# Altium integrated library TI Converter CODEC Voice-Band.IntLib: 99 symbols (part 3 of 7)
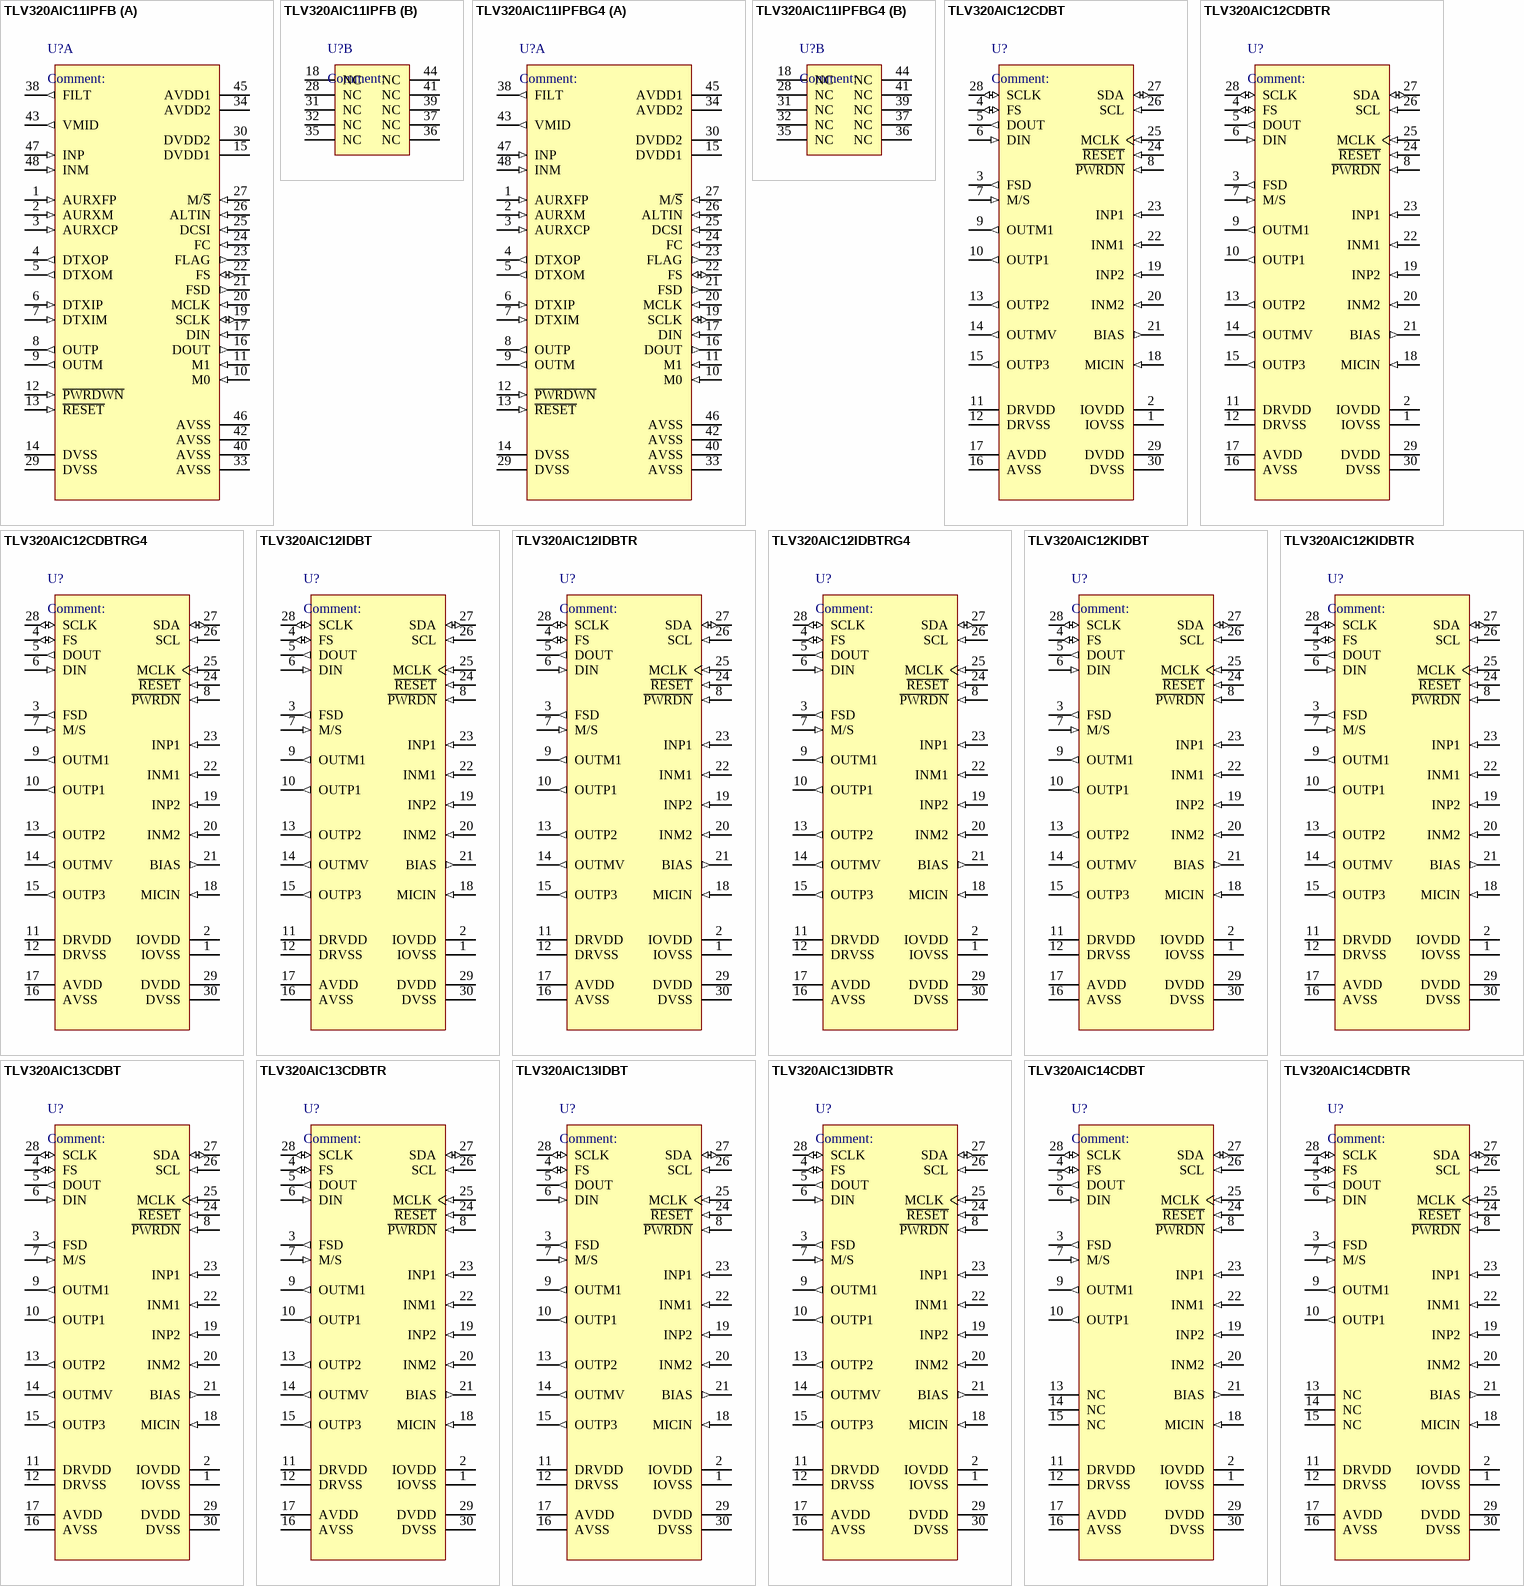
[diagram p11: symbols TLV320AIC11IPFB to TLV320AIC14CDBTR]

## TLV320AIC12KIDBT
designator U?
Low-Power, Highly-Integrated, Programmable 16-Bit, 26-Ksps Mono CODEC, 30-Pin TSSOP, Industrial Grade; Published: 16-Dec-2005; DatasheetVersion: 17-Oct-2005; PackageVersion: Sep-2005; PackageReference: DBT30; Publisher: Altium Limited; PackageDescription: Shrink Small Outline; 30 Leads; Body Width 4.4 mm; Pitch 0.5 mm; Code_JEDEC: MO-153; ComponentLink1Description: Manufacturer Link; ComponentLink1URL: http://www.ti.com/; ComponentLink2Description: Datasheet; ComponentLink2URL: http://focus.ti.com/lit/ds/symlink/tlv320aic12k.pdf
footprint DBT30 (Shrink Small Outline; 30 Leads; Body Width 4.4 mm; Pitch 0.5 mm)
pins: 1 IOVSS (power) "Digital I/O ground", 2 IOVDD (power) "Digital I/O power supply", 3 FSD (out) "Frame sync delayed output. The FSD output synchronizes a slave device to the frame sync of the master device.", 4 FS (io) "Frame sync. When FS goes low, DIN begins receiving data bits and DOUT begins transmitting data bits.", 5 DOUT (out) "Data output. DOUT transmits the ADC output bits and registers data, and is synchronized to SCLK and FS", 6 DIN (in) "Data input. DIN receives the DAC input data and register data from the external DSP and is synchronized to SCLK and FS.", 7 M/S (in) "Master/slave select input.", 8 ~{PWRDN} (in) "Power down.", 9 OUTM1 (out) "Inverting output of the DAC. OUTM1 is functionally identical with and complementary to OUTP1.", 10 OUTP1 (out) "Noninverting output of the DAC.", 11 DRVDD (power) "Analog power supply for the 16 Ohm drivers OUTP2 and OUTP3", 12 DRVSS (power) "Analog ground for the 16 Ohm drivers OUTP2 and OUTP3", 13 OUTP2 (out) "Analog output number 2 from the 16 Ohm driver.", 14 OUTMV (out) "Programmable virtual ground for the output of OUTP2 and OUTP3", 15 OUTP3 (out) "Analog output number 3 from the 16 Ohm driver.", 16 AVSS (power) "Analog ground", 17 AVDD (power) "Analog power supply", 18 MICIN (in) "MIC preamplifier input. It must be connected to AVSS if not used.", 19 INP2 (in) "Noninverting analog input 2. It must be connected to AVSS if not used.", 20 INM2 (in) "Inverting analog input 2. It must be connected to AVSS if not used.", 21 BIAS (out) "Bias output voltage is software selectable between 1.35 V and 2.35 V.", 22 INM1 (in) "Inverting analog input 1. It must be connected to AVSS if not used.", 23 INP1 (in) "Noninverting analog input 1. It must be connected to AVSS if not used.", 24 ~{RESET} (in) "Hardware reset.", 25 MCLK (in) "Master clock. MCLK derives the internal clocks of the sigma-delta analog interface circuit.", 26 SCL (in) "Programmable host port (I2C or S2C) clock input.", 27 SDA (io) "Programmable host port (I2C or S2C) data line.", 28 SCLK (io) "Shift clock. SCLK signal clocks serial data into DIN and out of DOUT during the frame-sync interval.", 29 DVDD (power) "Digital power supply", 30 DVSS (power) "Digital ground"

## TLV320AIC12KIDBTR
designator U?
Low-Power, Highly-Integrated, Programmable 16-Bit, 26-Ksps Mono CODEC, 30-Pin TSSOP, Industrial Grade; Published: 16-Dec-2005; DatasheetVersion: 17-Oct-2005; PackageVersion: Sep-2005; PackageReference: DBT30; Publisher: Altium Limited; PackageDescription: Shrink Small Outline; 30 Leads; Body Width 4.4 mm; Pitch 0.5 mm; Code_JEDEC: MO-153; ComponentLink1Description: Manufacturer Link; ComponentLink1URL: http://www.ti.com/; ComponentLink2Description: Datasheet; ComponentLink2URL: http://focus.ti.com/lit/ds/symlink/tlv320aic12k.pdf
footprint DBT30 (Shrink Small Outline; 30 Leads; Body Width 4.4 mm; Pitch 0.5 mm)
pins: 1 IOVSS (power) "Digital I/O ground", 2 IOVDD (power) "Digital I/O power supply", 3 FSD (out) "Frame sync delayed output. The FSD output synchronizes a slave device to the frame sync of the master device.", 4 FS (io) "Frame sync. When FS goes low, DIN begins receiving data bits and DOUT begins transmitting data bits.", 5 DOUT (out) "Data output. DOUT transmits the ADC output bits and registers data, and is synchronized to SCLK and FS", 6 DIN (in) "Data input. DIN receives the DAC input data and register data from the external DSP and is synchronized to SCLK and FS.", 7 M/S (in) "Master/slave select input.", 8 ~{PWRDN} (in) "Power down.", 9 OUTM1 (out) "Inverting output of the DAC. OUTM1 is functionally identical with and complementary to OUTP1.", 10 OUTP1 (out) "Noninverting output of the DAC.", 11 DRVDD (power) "Analog power supply for the 16 Ohm drivers OUTP2 and OUTP3", 12 DRVSS (power) "Analog ground for the 16 Ohm drivers OUTP2 and OUTP3", 13 OUTP2 (out) "Analog output number 2 from the 16 Ohm driver.", 14 OUTMV (out) "Programmable virtual ground for the output of OUTP2 and OUTP3", 15 OUTP3 (out) "Analog output number 3 from the 16 Ohm driver.", 16 AVSS (power) "Analog ground", 17 AVDD (power) "Analog power supply", 18 MICIN (in) "MIC preamplifier input. It must be connected to AVSS if not used.", 19 INP2 (in) "Noninverting analog input 2. It must be connected to AVSS if not used.", 20 INM2 (in) "Inverting analog input 2. It must be connected to AVSS if not used.", 21 BIAS (out) "Bias output voltage is software selectable between 1.35 V and 2.35 V.", 22 INM1 (in) "Inverting analog input 1. It must be connected to AVSS if not used.", 23 INP1 (in) "Noninverting analog input 1. It must be connected to AVSS if not used.", 24 ~{RESET} (in) "Hardware reset.", 25 MCLK (in) "Master clock. MCLK derives the internal clocks of the sigma-delta analog interface circuit.", 26 SCL (in) "Programmable host port (I2C or S2C) clock input.", 27 SDA (io) "Programmable host port (I2C or S2C) data line.", 28 SCLK (io) "Shift clock. SCLK signal clocks serial data into DIN and out of DOUT during the frame-sync interval.", 29 DVDD (power) "Digital power supply", 30 DVSS (power) "Digital ground"

## TLV320AIC13CDBT
designator U?
Low-Power, Low-Voltage, 1.1V to 3.6V I/O, 16-Bit, 26-KSPS CODEC with Smart Time Division Mulitplexed (SMARTDM), 30-Pin TSSOP, Commerical Grade; Published: 16-Dec-2005; DatasheetVersion: 30-Mar-2005; PackageVersion: Sep-2005; PackageReference: DBT30; Publisher: Altium Limited; PackageDescription: Shrink Small Outline; 30 Leads; Body Width 4.4 mm; Pitch 0.5 mm; Code_JEDEC: MO-153; ComponentLink1Description: Manufacturer Link; ComponentLink1URL: http://www.ti.com/; ComponentLink2Description: Datasheet; ComponentLink2URL: http://focus.ti.com/lit/ds/symlink/tlv320aic13.pdf
footprint DBT30 (Shrink Small Outline; 30 Leads; Body Width 4.4 mm; Pitch 0.5 mm)
pins: 1 IOVSS (power) "Digital I/O ground", 2 IOVDD (power) "Digital I/O power supply", 3 FSD (out) "Frame sync delayed output. The FSD output synchronizes a slave device to the frame sync of the master device.", 4 FS (io) "Frame sync. When FS goes low, DIN begins receiving data bits and DOUT begins transmitting data bits.", 5 DOUT (out) "Data output. DOUT transmits the ADC output bits and registers data, and is synchronized to SCLK and FS", 6 DIN (in) "Data input. DIN receives the DAC input data and register data from the external DSP and is synchronized to SCLK and FS.", 7 M/S (in) "Master/slave select input.", 8 ~{PWRDN} (in) "Power down.", 9 OUTM1 (out) "Inverting output of the DAC. OUTM1 is functionally identical with and complementary to OUTP1.", 10 OUTP1 (out) "Noninverting output of the DAC.", 11 DRVDD (power) "Analog power supply for the 16 Ohm drivers OUTP2 and OUTP3", 12 DRVSS (power) "Analog ground for the 16 Ohm drivers OUTP2 and OUTP3", 13 OUTP2 (out) "Analog output number 2 from the 16 Ohm driver.", 14 OUTMV (out) "Programmable virtual ground for the output of OUTP2 and OUTP3", 15 OUTP3 (out) "Analog output number 3 from the 16 Ohm driver.", 16 AVSS (power) "Analog ground", 17 AVDD (power) "Analog power supply", 18 MICIN (in) "MIC preamplifier input. It must be connected to AVSS if not used.", 19 INP2 (in) "Noninverting analog input 2. It must be connected to AVSS if not used.", 20 INM2 (in) "Inverting analog input 2. It must be connected to AVSS if not used.", 21 BIAS (out) "Bias output voltage is software selectable between 1.35 V and 2.35 V.", 22 INM1 (in) "Inverting analog input 1. It must be connected to AVSS if not used.", 23 INP1 (in) "Noninverting analog input 1. It must be connected to AVSS if not used.", 24 ~{RESET} (in) "Hardware reset.", 25 MCLK (in) "Master clock. MCLK derives the internal clocks of the sigma-delta analog interface circuit.", 26 SCL (in) "Programmable host port (I2C or S2C) clock input.", 27 SDA (io) "Programmable host port (I2C or S2C) data line.", 28 SCLK (io) "Shift clock. SCLK signal clocks serial data into DIN and out of DOUT during the frame-sync interval.", 29 DVDD (power) "Digital power supply", 30 DVSS (power) "Digital ground"

## TLV320AIC13CDBTR
designator U?
Low-Power, Low-Voltage, 1.1V to 3.6V I/O, 16-Bit, 26-KSPS CODEC with Smart Time Division Mulitplexed (SMARTDM), 30-Pin TSSOP, Commerical Grade; Published: 16-Dec-2005; DatasheetVersion: 30-Mar-2005; PackageVersion: Sep-2005; PackageReference: DBT30; Publisher: Altium Limited; PackageDescription: Shrink Small Outline; 30 Leads; Body Width 4.4 mm; Pitch 0.5 mm; Code_JEDEC: MO-153; ComponentLink1Description: Manufacturer Link; ComponentLink1URL: http://www.ti.com/; ComponentLink2Description: Datasheet; ComponentLink2URL: http://focus.ti.com/lit/ds/symlink/tlv320aic13.pdf
footprint DBT30 (Shrink Small Outline; 30 Leads; Body Width 4.4 mm; Pitch 0.5 mm)
pins: 1 IOVSS (power) "Digital I/O ground", 2 IOVDD (power) "Digital I/O power supply", 3 FSD (out) "Frame sync delayed output. The FSD output synchronizes a slave device to the frame sync of the master device.", 4 FS (io) "Frame sync. When FS goes low, DIN begins receiving data bits and DOUT begins transmitting data bits.", 5 DOUT (out) "Data output. DOUT transmits the ADC output bits and registers data, and is synchronized to SCLK and FS", 6 DIN (in) "Data input. DIN receives the DAC input data and register data from the external DSP and is synchronized to SCLK and FS.", 7 M/S (in) "Master/slave select input.", 8 ~{PWRDN} (in) "Power down.", 9 OUTM1 (out) "Inverting output of the DAC. OUTM1 is functionally identical with and complementary to OUTP1.", 10 OUTP1 (out) "Noninverting output of the DAC.", 11 DRVDD (power) "Analog power supply for the 16 Ohm drivers OUTP2 and OUTP3", 12 DRVSS (power) "Analog ground for the 16 Ohm drivers OUTP2 and OUTP3", 13 OUTP2 (out) "Analog output number 2 from the 16 Ohm driver.", 14 OUTMV (out) "Programmable virtual ground for the output of OUTP2 and OUTP3", 15 OUTP3 (out) "Analog output number 3 from the 16 Ohm driver.", 16 AVSS (power) "Analog ground", 17 AVDD (power) "Analog power supply", 18 MICIN (in) "MIC preamplifier input. It must be connected to AVSS if not used.", 19 INP2 (in) "Noninverting analog input 2. It must be connected to AVSS if not used.", 20 INM2 (in) "Inverting analog input 2. It must be connected to AVSS if not used.", 21 BIAS (out) "Bias output voltage is software selectable between 1.35 V and 2.35 V.", 22 INM1 (in) "Inverting analog input 1. It must be connected to AVSS if not used.", 23 INP1 (in) "Noninverting analog input 1. It must be connected to AVSS if not used.", 24 ~{RESET} (in) "Hardware reset.", 25 MCLK (in) "Master clock. MCLK derives the internal clocks of the sigma-delta analog interface circuit.", 26 SCL (in) "Programmable host port (I2C or S2C) clock input.", 27 SDA (io) "Programmable host port (I2C or S2C) data line.", 28 SCLK (io) "Shift clock. SCLK signal clocks serial data into DIN and out of DOUT during the frame-sync interval.", 29 DVDD (power) "Digital power supply", 30 DVSS (power) "Digital ground"

## TLV320AIC13IDBT
designator U?
Low-Power, Low-Voltage, 1.1V to 3.6V I/O, 16-Bit, 26-KSPS CODEC with Smart Time Division Mulitplexed (SMARTDM), 30-Pin TSSOP, Industrial Grade; Published: 16-Dec-2005; DatasheetVersion: 30-Mar-2005; PackageVersion: Sep-2005; PackageReference: DBT30; Publisher: Altium Limited; PackageDescription: Shrink Small Outline; 30 Leads; Body Width 4.4 mm; Pitch 0.5 mm; Code_JEDEC: MO-153; ComponentLink1Description: Manufacturer Link; ComponentLink1URL: http://www.ti.com/; ComponentLink2Description: Datasheet; ComponentLink2URL: http://focus.ti.com/lit/ds/symlink/tlv320aic13.pdf
footprint DBT30 (Shrink Small Outline; 30 Leads; Body Width 4.4 mm; Pitch 0.5 mm)
pins: 1 IOVSS (power) "Digital I/O ground", 2 IOVDD (power) "Digital I/O power supply", 3 FSD (out) "Frame sync delayed output. The FSD output synchronizes a slave device to the frame sync of the master device.", 4 FS (io) "Frame sync. When FS goes low, DIN begins receiving data bits and DOUT begins transmitting data bits.", 5 DOUT (out) "Data output. DOUT transmits the ADC output bits and registers data, and is synchronized to SCLK and FS", 6 DIN (in) "Data input. DIN receives the DAC input data and register data from the external DSP and is synchronized to SCLK and FS.", 7 M/S (in) "Master/slave select input.", 8 ~{PWRDN} (in) "Power down.", 9 OUTM1 (out) "Inverting output of the DAC. OUTM1 is functionally identical with and complementary to OUTP1.", 10 OUTP1 (out) "Noninverting output of the DAC.", 11 DRVDD (power) "Analog power supply for the 16 Ohm drivers OUTP2 and OUTP3", 12 DRVSS (power) "Analog ground for the 16 Ohm drivers OUTP2 and OUTP3", 13 OUTP2 (out) "Analog output number 2 from the 16 Ohm driver.", 14 OUTMV (out) "Programmable virtual ground for the output of OUTP2 and OUTP3", 15 OUTP3 (out) "Analog output number 3 from the 16 Ohm driver.", 16 AVSS (power) "Analog ground", 17 AVDD (power) "Analog power supply", 18 MICIN (in) "MIC preamplifier input. It must be connected to AVSS if not used.", 19 INP2 (in) "Noninverting analog input 2. It must be connected to AVSS if not used.", 20 INM2 (in) "Inverting analog input 2. It must be connected to AVSS if not used.", 21 BIAS (out) "Bias output voltage is software selectable between 1.35 V and 2.35 V.", 22 INM1 (in) "Inverting analog input 1. It must be connected to AVSS if not used.", 23 INP1 (in) "Noninverting analog input 1. It must be connected to AVSS if not used.", 24 ~{RESET} (in) "Hardware reset.", 25 MCLK (in) "Master clock. MCLK derives the internal clocks of the sigma-delta analog interface circuit.", 26 SCL (in) "Programmable host port (I2C or S2C) clock input.", 27 SDA (io) "Programmable host port (I2C or S2C) data line.", 28 SCLK (io) "Shift clock. SCLK signal clocks serial data into DIN and out of DOUT during the frame-sync interval.", 29 DVDD (power) "Digital power supply", 30 DVSS (power) "Digital ground"

## TLV320AIC13IDBTR
designator U?
Low-Power, Low-Voltage, 1.1V to 3.6V I/O, 16-Bit, 26-KSPS CODEC with Smart Time Division Mulitplexed (SMARTDM), 30-Pin TSSOP, Industrial Grade; Published: 16-Dec-2005; DatasheetVersion: 30-Mar-2005; PackageVersion: Sep-2005; PackageReference: DBT30; Publisher: Altium Limited; PackageDescription: Shrink Small Outline; 30 Leads; Body Width 4.4 mm; Pitch 0.5 mm; Code_JEDEC: MO-153; ComponentLink1Description: Manufacturer Link; ComponentLink1URL: http://www.ti.com/; ComponentLink2Description: Datasheet; ComponentLink2URL: http://focus.ti.com/lit/ds/symlink/tlv320aic13.pdf
footprint DBT30 (Shrink Small Outline; 30 Leads; Body Width 4.4 mm; Pitch 0.5 mm)
pins: 1 IOVSS (power) "Digital I/O ground", 2 IOVDD (power) "Digital I/O power supply", 3 FSD (out) "Frame sync delayed output. The FSD output synchronizes a slave device to the frame sync of the master device.", 4 FS (io) "Frame sync. When FS goes low, DIN begins receiving data bits and DOUT begins transmitting data bits.", 5 DOUT (out) "Data output. DOUT transmits the ADC output bits and registers data, and is synchronized to SCLK and FS", 6 DIN (in) "Data input. DIN receives the DAC input data and register data from the external DSP and is synchronized to SCLK and FS.", 7 M/S (in) "Master/slave select input.", 8 ~{PWRDN} (in) "Power down.", 9 OUTM1 (out) "Inverting output of the DAC. OUTM1 is functionally identical with and complementary to OUTP1.", 10 OUTP1 (out) "Noninverting output of the DAC.", 11 DRVDD (power) "Analog power supply for the 16 Ohm drivers OUTP2 and OUTP3", 12 DRVSS (power) "Analog ground for the 16 Ohm drivers OUTP2 and OUTP3", 13 OUTP2 (out) "Analog output number 2 from the 16 Ohm driver.", 14 OUTMV (out) "Programmable virtual ground for the output of OUTP2 and OUTP3", 15 OUTP3 (out) "Analog output number 3 from the 16 Ohm driver.", 16 AVSS (power) "Analog ground", 17 AVDD (power) "Analog power supply", 18 MICIN (in) "MIC preamplifier input. It must be connected to AVSS if not used.", 19 INP2 (in) "Noninverting analog input 2. It must be connected to AVSS if not used.", 20 INM2 (in) "Inverting analog input 2. It must be connected to AVSS if not used.", 21 BIAS (out) "Bias output voltage is software selectable between 1.35 V and 2.35 V.", 22 INM1 (in) "Inverting analog input 1. It must be connected to AVSS if not used.", 23 INP1 (in) "Noninverting analog input 1. It must be connected to AVSS if not used.", 24 ~{RESET} (in) "Hardware reset.", 25 MCLK (in) "Master clock. MCLK derives the internal clocks of the sigma-delta analog interface circuit.", 26 SCL (in) "Programmable host port (I2C or S2C) clock input.", 27 SDA (io) "Programmable host port (I2C or S2C) data line.", 28 SCLK (io) "Shift clock. SCLK signal clocks serial data into DIN and out of DOUT during the frame-sync interval.", 29 DVDD (power) "Digital power supply", 30 DVSS (power) "Digital ground"

## TLV320AIC14CDBT
designator U?
Low-Power CMOS, 16-Bit, 26-KSPS CODEC with Smart Time Division Mulitplexed (SMARTDM), Serial Port, 30-Pin TSSOP, Commerical Grade; Published: 16-Dec-2005; DatasheetVersion: 30-Mar-2005; PackageVersion: Sep-2005; PackageReference: DBT30; Publisher: Altium Limited; PackageDescription: Shrink Small Outline; 30 Leads; Body Width 4.4 mm; Pitch 0.5 mm; Code_JEDEC: MO-153; ComponentLink1Description: Manufacturer Link; ComponentLink1URL: http://www.ti.com/; ComponentLink2Description: Datasheet; ComponentLink2URL: http://focus.ti.com/lit/ds/symlink/tlv320aic14.pdf
footprint DBT30 (Shrink Small Outline; 30 Leads; Body Width 4.4 mm; Pitch 0.5 mm)
pins: 1 IOVSS (power) "Digital I/O ground", 2 IOVDD (power) "Digital I/O power supply", 3 FSD (out) "Frame sync delayed output. The FSD output synchronizes a slave device to the frame sync of the master device.", 4 FS (io) "Frame sync. When FS goes low, DIN begins receiving data bits and DOUT begins transmitting data bits.", 5 DOUT (out) "Data output. DOUT transmits the ADC output bits and registers data, and is synchronized to SCLK and FS", 6 DIN (in) "Data input. DIN receives the DAC input data and register data from the external DSP and is synchronized to SCLK and FS.", 7 M/S (in) "Master/slave select input.", 8 ~{PWRDN} (in) "Power down.", 9 OUTM1 (out) "Inverting output of the DAC. OUTM1 is functionally identical with and complementary to OUTP1.", 10 OUTP1 (out) "Noninverting output of the DAC.", 11 DRVDD (power) "Analog power supply for the 16Ohm drivers OUTP2 and OUTP3", 12 DRVSS (power) "Analog ground for the 16Ohm drivers OUTP2 and OUTP3", 13 NC "No connection", 14 NC "No connection", 15 NC "No connection", 16 AVSS (power) "Analog ground", 17 AVDD (power) "Analog power supply", 18 MICIN (in) "MIC preamplifier input. It must be connected to AVSS if not used.", 19 INP2 (in) "Noninverting analog input 2. It must be connected to AVSS if not used.", 20 INM2 (in) "Inverting analog input 2. It must be connected to AVSS if not used.", 21 BIAS (out) "Bias output voltage is software selectable between 1.35 V and 2.35 V.", 22 INM1 (in) "Inverting analog input 1. It must be connected to AVSS if not used.", 23 INP1 (in) "Noninverting analog input 1. It must be connected to AVSS if not used.", 24 ~{RESET} (in) "Hardware reset.", 25 MCLK (in) "Master clock. MCLK derives the internal clocks of the sigma-delta analog interface circuit.", 26 SCL (in) "Programmable host port (I2C or S2C) clock input.", 27 SDA (io) "Programmable host port (I2C or S2C) data line.", 28 SCLK (io) "Shift clock. SCLK signal clocks serial data into DIN and out of DOUT during the frame-sync interval.", 29 DVDD (power) "Digital power supply", 30 DVSS (power) "Digital ground"

## TLV320AIC14CDBTR
designator U?
Low-Power CMOS, 16-Bit, 26-KSPS CODEC with Smart Time Division Mulitplexed (SMARTDM), Serial Port, 30-Pin TSSOP, Commerical Grade; Published: 16-Dec-2005; DatasheetVersion: 30-Mar-2005; PackageVersion: Sep-2005; PackageReference: DBT30; Publisher: Altium Limited; PackageDescription: Shrink Small Outline; 30 Leads; Body Width 4.4 mm; Pitch 0.5 mm; Code_JEDEC: MO-153; ComponentLink1Description: Manufacturer Link; ComponentLink1URL: http://www.ti.com/; ComponentLink2Description: Datasheet; ComponentLink2URL: http://focus.ti.com/lit/ds/symlink/tlv320aic14.pdf
footprint DBT30 (Shrink Small Outline; 30 Leads; Body Width 4.4 mm; Pitch 0.5 mm)
pins: 1 IOVSS (power) "Digital I/O ground", 2 IOVDD (power) "Digital I/O power supply", 3 FSD (out) "Frame sync delayed output. The FSD output synchronizes a slave device to the frame sync of the master device.", 4 FS (io) "Frame sync. When FS goes low, DIN begins receiving data bits and DOUT begins transmitting data bits.", 5 DOUT (out) "Data output. DOUT transmits the ADC output bits and registers data, and is synchronized to SCLK and FS", 6 DIN (in) "Data input. DIN receives the DAC input data and register data from the external DSP and is synchronized to SCLK and FS.", 7 M/S (in) "Master/slave select input.", 8 ~{PWRDN} (in) "Power down.", 9 OUTM1 (out) "Inverting output of the DAC. OUTM1 is functionally identical with and complementary to OUTP1.", 10 OUTP1 (out) "Noninverting output of the DAC.", 11 DRVDD (power) "Analog power supply for the 16Ohm drivers OUTP2 and OUTP3", 12 DRVSS (power) "Analog ground for the 16Ohm drivers OUTP2 and OUTP3", 13 NC "No connection", 14 NC "No connection", 15 NC "No connection", 16 AVSS (power) "Analog ground", 17 AVDD (power) "Analog power supply", 18 MICIN (in) "MIC preamplifier input. It must be connected to AVSS if not used.", 19 INP2 (in) "Noninverting analog input 2. It must be connected to AVSS if not used.", 20 INM2 (in) "Inverting analog input 2. It must be connected to AVSS if not used.", 21 BIAS (out) "Bias output voltage is software selectable between 1.35 V and 2.35 V.", 22 INM1 (in) "Inverting analog input 1. It must be connected to AVSS if not used.", 23 INP1 (in) "Noninverting analog input 1. It must be connected to AVSS if not used.", 24 ~{RESET} (in) "Hardware reset.", 25 MCLK (in) "Master clock. MCLK derives the internal clocks of the sigma-delta analog interface circuit.", 26 SCL (in) "Programmable host port (I2C or S2C) clock input.", 27 SDA (io) "Programmable host port (I2C or S2C) data line.", 28 SCLK (io) "Shift clock. SCLK signal clocks serial data into DIN and out of DOUT during the frame-sync interval.", 29 DVDD (power) "Digital power supply", 30 DVSS (power) "Digital ground"

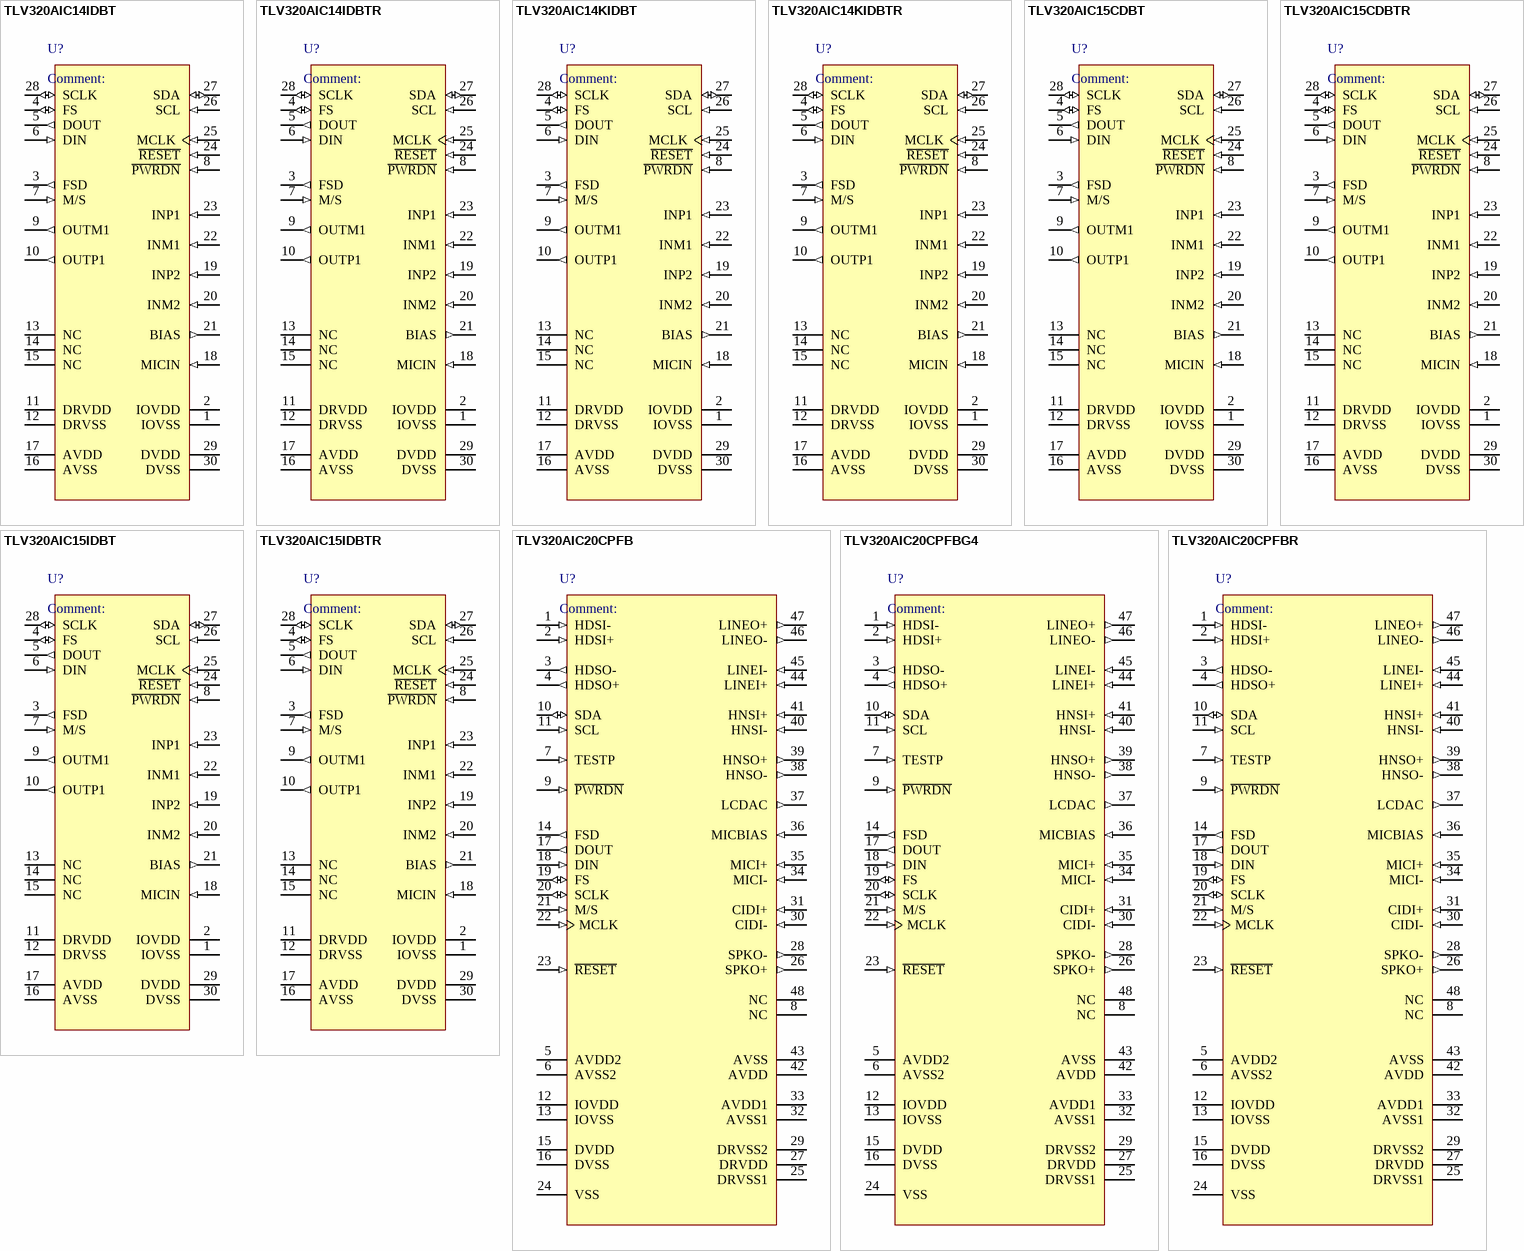
[diagram p3: symbols TLV320AIC14IDBT to TLV320AIC20CPFBR]

## TLV320AIC14IDBT
designator U?
Low-Power CMOS, 16-Bit, 26-KSPS CODEC with Smart Time Division Mulitplexed (SMARTDM), Serial Port, 30-Pin TSSOP, Industrial Grade; Published: 16-Dec-2005; DatasheetVersion: 30-Mar-2005; PackageVersion: Sep-2005; PackageReference: DBT30; Publisher: Altium Limited; PackageDescription: Shrink Small Outline; 30 Leads; Body Width 4.4 mm; Pitch 0.5 mm; Code_JEDEC: MO-153; ComponentLink1Description: Manufacturer Link; ComponentLink1URL: http://www.ti.com/; ComponentLink2Description: Datasheet; ComponentLink2URL: http://focus.ti.com/lit/ds/symlink/tlv320aic14.pdf
footprint DBT30 (Shrink Small Outline; 30 Leads; Body Width 4.4 mm; Pitch 0.5 mm)
pins: 1 IOVSS (power) "Digital I/O ground", 2 IOVDD (power) "Digital I/O power supply", 3 FSD (out) "Frame sync delayed output. The FSD output synchronizes a slave device to the frame sync of the master device.", 4 FS (io) "Frame sync. When FS goes low, DIN begins receiving data bits and DOUT begins transmitting data bits.", 5 DOUT (out) "Data output. DOUT transmits the ADC output bits and registers data, and is synchronized to SCLK and FS", 6 DIN (in) "Data input. DIN receives the DAC input data and register data from the external DSP and is synchronized to SCLK and FS.", 7 M/S (in) "Master/slave select input.", 8 ~{PWRDN} (in) "Power down.", 9 OUTM1 (out) "Inverting output of the DAC. OUTM1 is functionally identical with and complementary to OUTP1.", 10 OUTP1 (out) "Noninverting output of the DAC.", 11 DRVDD (power) "Analog power supply for the 16Ohm drivers OUTP2 and OUTP3", 12 DRVSS (power) "Analog ground for the 16Ohm drivers OUTP2 and OUTP3", 13 NC "No connection", 14 NC "No connection", 15 NC "No connection", 16 AVSS (power) "Analog ground", 17 AVDD (power) "Analog power supply", 18 MICIN (in) "MIC preamplifier input. It must be connected to AVSS if not used.", 19 INP2 (in) "Noninverting analog input 2. It must be connected to AVSS if not used.", 20 INM2 (in) "Inverting analog input 2. It must be connected to AVSS if not used.", 21 BIAS (out) "Bias output voltage is software selectable between 1.35 V and 2.35 V.", 22 INM1 (in) "Inverting analog input 1. It must be connected to AVSS if not used.", 23 INP1 (in) "Noninverting analog input 1. It must be connected to AVSS if not used.", 24 ~{RESET} (in) "Hardware reset.", 25 MCLK (in) "Master clock. MCLK derives the internal clocks of the sigma-delta analog interface circuit.", 26 SCL (in) "Programmable host port (I2C or S2C) clock input.", 27 SDA (io) "Programmable host port (I2C or S2C) data line.", 28 SCLK (io) "Shift clock. SCLK signal clocks serial data into DIN and out of DOUT during the frame-sync interval.", 29 DVDD (power) "Digital power supply", 30 DVSS (power) "Digital ground"

## TLV320AIC14IDBTR
designator U?
Low-Power CMOS, 16-Bit, 26-KSPS CODEC with Smart Time Division Mulitplexed (SMARTDM), Serial Port, 30-Pin TSSOP, Industrial Grade; Published: 16-Dec-2005; DatasheetVersion: 30-Mar-2005; PackageVersion: Sep-2005; PackageReference: DBT30; Publisher: Altium Limited; PackageDescription: Shrink Small Outline; 30 Leads; Body Width 4.4 mm; Pitch 0.5 mm; Code_JEDEC: MO-153; ComponentLink1Description: Manufacturer Link; ComponentLink1URL: http://www.ti.com/; ComponentLink2Description: Datasheet; ComponentLink2URL: http://focus.ti.com/lit/ds/symlink/tlv320aic14.pdf
footprint DBT30 (Shrink Small Outline; 30 Leads; Body Width 4.4 mm; Pitch 0.5 mm)
pins: 1 IOVSS (power) "Digital I/O ground", 2 IOVDD (power) "Digital I/O power supply", 3 FSD (out) "Frame sync delayed output. The FSD output synchronizes a slave device to the frame sync of the master device.", 4 FS (io) "Frame sync. When FS goes low, DIN begins receiving data bits and DOUT begins transmitting data bits.", 5 DOUT (out) "Data output. DOUT transmits the ADC output bits and registers data, and is synchronized to SCLK and FS", 6 DIN (in) "Data input. DIN receives the DAC input data and register data from the external DSP and is synchronized to SCLK and FS.", 7 M/S (in) "Master/slave select input.", 8 ~{PWRDN} (in) "Power down.", 9 OUTM1 (out) "Inverting output of the DAC. OUTM1 is functionally identical with and complementary to OUTP1.", 10 OUTP1 (out) "Noninverting output of the DAC.", 11 DRVDD (power) "Analog power supply for the 16Ohm drivers OUTP2 and OUTP3", 12 DRVSS (power) "Analog ground for the 16Ohm drivers OUTP2 and OUTP3", 13 NC "No connection", 14 NC "No connection", 15 NC "No connection", 16 AVSS (power) "Analog ground", 17 AVDD (power) "Analog power supply", 18 MICIN (in) "MIC preamplifier input. It must be connected to AVSS if not used.", 19 INP2 (in) "Noninverting analog input 2. It must be connected to AVSS if not used.", 20 INM2 (in) "Inverting analog input 2. It must be connected to AVSS if not used.", 21 BIAS (out) "Bias output voltage is software selectable between 1.35 V and 2.35 V.", 22 INM1 (in) "Inverting analog input 1. It must be connected to AVSS if not used.", 23 INP1 (in) "Noninverting analog input 1. It must be connected to AVSS if not used.", 24 ~{RESET} (in) "Hardware reset.", 25 MCLK (in) "Master clock. MCLK derives the internal clocks of the sigma-delta analog interface circuit.", 26 SCL (in) "Programmable host port (I2C or S2C) clock input.", 27 SDA (io) "Programmable host port (I2C or S2C) data line.", 28 SCLK (io) "Shift clock. SCLK signal clocks serial data into DIN and out of DOUT during the frame-sync interval.", 29 DVDD (power) "Digital power supply", 30 DVSS (power) "Digital ground"

## TLV320AIC14KIDBT
designator U?
Low-Power, Highly-Integrated, Programmable 16-Bit, 26-Ksps Mono CODEC, 30-Pin TSSOP, Industrial Grade; Published: 16-Dec-2005; DatasheetVersion: 17-Oct-2005; PackageVersion: Sep-2005; PackageReference: DBT30; Publisher: Altium Limited; PackageDescription: Shrink Small Outline; 30 Leads; Body Width 4.4 mm; Pitch 0.5 mm; Code_JEDEC: MO-153; ComponentLink1Description: Manufacturer Link; ComponentLink1URL: http://www.ti.com/; ComponentLink2Description: Datasheet; ComponentLink2URL: http://focus.ti.com/lit/ds/symlink/tlv320aic14k.pdf
footprint DBT30 (Shrink Small Outline; 30 Leads; Body Width 4.4 mm; Pitch 0.5 mm)
pins: 1 IOVSS (power) "Digital I/O ground", 2 IOVDD (power) "Digital I/O power supply", 3 FSD (out) "Frame sync delayed output. The FSD output synchronizes a slave device to the frame sync of the master device.", 4 FS (io) "Frame sync. When FS goes low, DIN begins receiving data bits and DOUT begins transmitting data bits.", 5 DOUT (out) "Data output. DOUT transmits the ADC output bits and registers data, and is synchronized to SCLK and FS", 6 DIN (in) "Data input. DIN receives the DAC input data and register data from the external DSP and is synchronized to SCLK and FS.", 7 M/S (in) "Master/slave select input.", 8 ~{PWRDN} (in) "Power down.", 9 OUTM1 (out) "Inverting output of the DAC. OUTM1 is functionally identical with and complementary to OUTP1.", 10 OUTP1 (out) "Noninverting output of the DAC.", 11 DRVDD (power) "Analog power supply for the 16Ohm drivers OUTP2 and OUTP3", 12 DRVSS (power) "Analog ground for the 16Ohm drivers OUTP2 and OUTP3", 13 NC "No connection", 14 NC "No connection", 15 NC "No connection", 16 AVSS (power) "Analog ground", 17 AVDD (power) "Analog power supply", 18 MICIN (in) "MIC preamplifier input. It must be connected to AVSS if not used.", 19 INP2 (in) "Noninverting analog input 2. It must be connected to AVSS if not used.", 20 INM2 (in) "Inverting analog input 2. It must be connected to AVSS if not used.", 21 BIAS (out) "Bias output voltage is software selectable between 1.35 V and 2.35 V.", 22 INM1 (in) "Inverting analog input 1. It must be connected to AVSS if not used.", 23 INP1 (in) "Noninverting analog input 1. It must be connected to AVSS if not used.", 24 ~{RESET} (in) "Hardware reset.", 25 MCLK (in) "Master clock. MCLK derives the internal clocks of the sigma-delta analog interface circuit.", 26 SCL (in) "Programmable host port (I2C or S2C) clock input.", 27 SDA (io) "Programmable host port (I2C or S2C) data line.", 28 SCLK (io) "Shift clock. SCLK signal clocks serial data into DIN and out of DOUT during the frame-sync interval.", 29 DVDD (power) "Digital power supply", 30 DVSS (power) "Digital ground"

## TLV320AIC14KIDBTR
designator U?
Low-Power, Highly-Integrated, Programmable 16-Bit, 26-Ksps Mono CODEC, 30-Pin TSSOP, Industrial Grade; Published: 16-Dec-2005; DatasheetVersion: 17-Oct-2005; PackageVersion: Sep-2005; PackageReference: DBT30; Publisher: Altium Limited; PackageDescription: Shrink Small Outline; 30 Leads; Body Width 4.4 mm; Pitch 0.5 mm; Code_JEDEC: MO-153; ComponentLink1Description: Manufacturer Link; ComponentLink1URL: http://www.ti.com/; ComponentLink2Description: Datasheet; ComponentLink2URL: http://focus.ti.com/lit/ds/symlink/tlv320aic14k.pdf
footprint DBT30 (Shrink Small Outline; 30 Leads; Body Width 4.4 mm; Pitch 0.5 mm)
pins: 1 IOVSS (power) "Digital I/O ground", 2 IOVDD (power) "Digital I/O power supply", 3 FSD (out) "Frame sync delayed output. The FSD output synchronizes a slave device to the frame sync of the master device.", 4 FS (io) "Frame sync. When FS goes low, DIN begins receiving data bits and DOUT begins transmitting data bits.", 5 DOUT (out) "Data output. DOUT transmits the ADC output bits and registers data, and is synchronized to SCLK and FS", 6 DIN (in) "Data input. DIN receives the DAC input data and register data from the external DSP and is synchronized to SCLK and FS.", 7 M/S (in) "Master/slave select input.", 8 ~{PWRDN} (in) "Power down.", 9 OUTM1 (out) "Inverting output of the DAC. OUTM1 is functionally identical with and complementary to OUTP1.", 10 OUTP1 (out) "Noninverting output of the DAC.", 11 DRVDD (power) "Analog power supply for the 16Ohm drivers OUTP2 and OUTP3", 12 DRVSS (power) "Analog ground for the 16Ohm drivers OUTP2 and OUTP3", 13 NC "No connection", 14 NC "No connection", 15 NC "No connection", 16 AVSS (power) "Analog ground", 17 AVDD (power) "Analog power supply", 18 MICIN (in) "MIC preamplifier input. It must be connected to AVSS if not used.", 19 INP2 (in) "Noninverting analog input 2. It must be connected to AVSS if not used.", 20 INM2 (in) "Inverting analog input 2. It must be connected to AVSS if not used.", 21 BIAS (out) "Bias output voltage is software selectable between 1.35 V and 2.35 V.", 22 INM1 (in) "Inverting analog input 1. It must be connected to AVSS if not used.", 23 INP1 (in) "Noninverting analog input 1. It must be connected to AVSS if not used.", 24 ~{RESET} (in) "Hardware reset.", 25 MCLK (in) "Master clock. MCLK derives the internal clocks of the sigma-delta analog interface circuit.", 26 SCL (in) "Programmable host port (I2C or S2C) clock input.", 27 SDA (io) "Programmable host port (I2C or S2C) data line.", 28 SCLK (io) "Shift clock. SCLK signal clocks serial data into DIN and out of DOUT during the frame-sync interval.", 29 DVDD (power) "Digital power supply", 30 DVSS (power) "Digital ground"

## TLV320AIC15CDBT
designator U?
Low-Power, Low-Voltage, 1.1V to 3.6V I/O, 16-Bit, 26-KSPS CODEC with Smart Time Division Mulitplexed (SMARTDM), 30-Pin TSSOP, Commerical Grade; Published: 16-Dec-2005; DatasheetVersion: 30-Mar-2005; PackageVersion: Sep-2005; PackageReference: DBT30; Publisher: Altium Limited; PackageDescription: Shrink Small Outline; 30 Leads; Body Width 4.4 mm; Pitch 0.5 mm; Code_JEDEC: MO-153; ComponentLink1Description: Manufacturer Link; ComponentLink1URL: http://www.ti.com/; ComponentLink2Description: Datasheet; ComponentLink2URL: http://focus.ti.com/lit/ds/symlink/tlv320aic15.pdf
footprint DBT30 (Shrink Small Outline; 30 Leads; Body Width 4.4 mm; Pitch 0.5 mm)
pins: 1 IOVSS (power) "Digital I/O ground", 2 IOVDD (power) "Digital I/O power supply", 3 FSD (out) "Frame sync delayed output. The FSD output synchronizes a slave device to the frame sync of the master device.", 4 FS (io) "Frame sync. When FS goes low, DIN begins receiving data bits and DOUT begins transmitting data bits.", 5 DOUT (out) "Data output. DOUT transmits the ADC output bits and registers data, and is synchronized to SCLK and FS", 6 DIN (in) "Data input. DIN receives the DAC input data and register data from the external DSP and is synchronized to SCLK and FS.", 7 M/S (in) "Master/slave select input.", 8 ~{PWRDN} (in) "Power down.", 9 OUTM1 (out) "Inverting output of the DAC. OUTM1 is functionally identical with and complementary to OUTP1.", 10 OUTP1 (out) "Noninverting output of the DAC.", 11 DRVDD (power) "Analog power supply for the 16Ohm drivers OUTP2 and OUTP3", 12 DRVSS (power) "Analog ground for the 16Ohm drivers OUTP2 and OUTP3", 13 NC "No connection", 14 NC "No connection", 15 NC "No connection", 16 AVSS (power) "Analog ground", 17 AVDD (power) "Analog power supply", 18 MICIN (in) "MIC preamplifier input. It must be connected to AVSS if not used.", 19 INP2 (in) "Noninverting analog input 2. It must be connected to AVSS if not used.", 20 INM2 (in) "Inverting analog input 2. It must be connected to AVSS if not used.", 21 BIAS (out) "Bias output voltage is software selectable between 1.35 V and 2.35 V.", 22 INM1 (in) "Inverting analog input 1. It must be connected to AVSS if not used.", 23 INP1 (in) "Noninverting analog input 1. It must be connected to AVSS if not used.", 24 ~{RESET} (in) "Hardware reset.", 25 MCLK (in) "Master clock. MCLK derives the internal clocks of the sigma-delta analog interface circuit.", 26 SCL (in) "Programmable host port (I2C or S2C) clock input.", 27 SDA (io) "Programmable host port (I2C or S2C) data line.", 28 SCLK (io) "Shift clock. SCLK signal clocks serial data into DIN and out of DOUT during the frame-sync interval.", 29 DVDD (power) "Digital power supply", 30 DVSS (power) "Digital ground"

## TLV320AIC15CDBTR
designator U?
Low-Power, Low-Voltage, 1.1V to 3.6V I/O, 16-Bit, 26-KSPS CODEC with Smart Time Division Mulitplexed (SMARTDM), 30-Pin TSSOP, Commerical Grade; Published: 16-Dec-2005; DatasheetVersion: 30-Mar-2005; PackageVersion: Sep-2005; PackageReference: DBT30; Publisher: Altium Limited; PackageDescription: Shrink Small Outline; 30 Leads; Body Width 4.4 mm; Pitch 0.5 mm; Code_JEDEC: MO-153; ComponentLink1Description: Manufacturer Link; ComponentLink1URL: http://www.ti.com/; ComponentLink2Description: Datasheet; ComponentLink2URL: http://focus.ti.com/lit/ds/symlink/tlv320aic15.pdf
footprint DBT30 (Shrink Small Outline; 30 Leads; Body Width 4.4 mm; Pitch 0.5 mm)
pins: 1 IOVSS (power) "Digital I/O ground", 2 IOVDD (power) "Digital I/O power supply", 3 FSD (out) "Frame sync delayed output. The FSD output synchronizes a slave device to the frame sync of the master device.", 4 FS (io) "Frame sync. When FS goes low, DIN begins receiving data bits and DOUT begins transmitting data bits.", 5 DOUT (out) "Data output. DOUT transmits the ADC output bits and registers data, and is synchronized to SCLK and FS", 6 DIN (in) "Data input. DIN receives the DAC input data and register data from the external DSP and is synchronized to SCLK and FS.", 7 M/S (in) "Master/slave select input.", 8 ~{PWRDN} (in) "Power down.", 9 OUTM1 (out) "Inverting output of the DAC. OUTM1 is functionally identical with and complementary to OUTP1.", 10 OUTP1 (out) "Noninverting output of the DAC.", 11 DRVDD (power) "Analog power supply for the 16Ohm drivers OUTP2 and OUTP3", 12 DRVSS (power) "Analog ground for the 16Ohm drivers OUTP2 and OUTP3", 13 NC "No connection", 14 NC "No connection", 15 NC "No connection", 16 AVSS (power) "Analog ground", 17 AVDD (power) "Analog power supply", 18 MICIN (in) "MIC preamplifier input. It must be connected to AVSS if not used.", 19 INP2 (in) "Noninverting analog input 2. It must be connected to AVSS if not used.", 20 INM2 (in) "Inverting analog input 2. It must be connected to AVSS if not used.", 21 BIAS (out) "Bias output voltage is software selectable between 1.35 V and 2.35 V.", 22 INM1 (in) "Inverting analog input 1. It must be connected to AVSS if not used.", 23 INP1 (in) "Noninverting analog input 1. It must be connected to AVSS if not used.", 24 ~{RESET} (in) "Hardware reset.", 25 MCLK (in) "Master clock. MCLK derives the internal clocks of the sigma-delta analog interface circuit.", 26 SCL (in) "Programmable host port (I2C or S2C) clock input.", 27 SDA (io) "Programmable host port (I2C or S2C) data line.", 28 SCLK (io) "Shift clock. SCLK signal clocks serial data into DIN and out of DOUT during the frame-sync interval.", 29 DVDD (power) "Digital power supply", 30 DVSS (power) "Digital ground"

## TLV320AIC15IDBT
designator U?
Low-Power, Low-Voltage, 1.1V to 3.6V I/O, 16-Bit, 26-KSPS CODEC with Smart Time Division Mulitplexed (SMARTDM), 30-Pin TSSOP, Industrial Grade; Published: 16-Dec-2005; DatasheetVersion: 30-Mar-2005; PackageVersion: Sep-2005; PackageReference: DBT30; Publisher: Altium Limited; PackageDescription: Shrink Small Outline; 30 Leads; Body Width 4.4 mm; Pitch 0.5 mm; Code_JEDEC: MO-153; ComponentLink1Description: Manufacturer Link; ComponentLink1URL: http://www.ti.com/; ComponentLink2Description: Datasheet; ComponentLink2URL: http://focus.ti.com/lit/ds/symlink/tlv320aic15.pdf
footprint DBT30 (Shrink Small Outline; 30 Leads; Body Width 4.4 mm; Pitch 0.5 mm)
pins: 1 IOVSS (power) "Digital I/O ground", 2 IOVDD (power) "Digital I/O power supply", 3 FSD (out) "Frame sync delayed output. The FSD output synchronizes a slave device to the frame sync of the master device.", 4 FS (io) "Frame sync. When FS goes low, DIN begins receiving data bits and DOUT begins transmitting data bits.", 5 DOUT (out) "Data output. DOUT transmits the ADC output bits and registers data, and is synchronized to SCLK and FS", 6 DIN (in) "Data input. DIN receives the DAC input data and register data from the external DSP and is synchronized to SCLK and FS.", 7 M/S (in) "Master/slave select input.", 8 ~{PWRDN} (in) "Power down.", 9 OUTM1 (out) "Inverting output of the DAC. OUTM1 is functionally identical with and complementary to OUTP1.", 10 OUTP1 (out) "Noninverting output of the DAC.", 11 DRVDD (power) "Analog power supply for the 16Ohm drivers OUTP2 and OUTP3", 12 DRVSS (power) "Analog ground for the 16Ohm drivers OUTP2 and OUTP3", 13 NC "No connection", 14 NC "No connection", 15 NC "No connection", 16 AVSS (power) "Analog ground", 17 AVDD (power) "Analog power supply", 18 MICIN (in) "MIC preamplifier input. It must be connected to AVSS if not used.", 19 INP2 (in) "Noninverting analog input 2. It must be connected to AVSS if not used.", 20 INM2 (in) "Inverting analog input 2. It must be connected to AVSS if not used.", 21 BIAS (out) "Bias output voltage is software selectable between 1.35 V and 2.35 V.", 22 INM1 (in) "Inverting analog input 1. It must be connected to AVSS if not used.", 23 INP1 (in) "Noninverting analog input 1. It must be connected to AVSS if not used.", 24 ~{RESET} (in) "Hardware reset.", 25 MCLK (in) "Master clock. MCLK derives the internal clocks of the sigma-delta analog interface circuit.", 26 SCL (in) "Programmable host port (I2C or S2C) clock input.", 27 SDA (io) "Programmable host port (I2C or S2C) data line.", 28 SCLK (io) "Shift clock. SCLK signal clocks serial data into DIN and out of DOUT during the frame-sync interval.", 29 DVDD (power) "Digital power supply", 30 DVSS (power) "Digital ground"

## TLV320AIC15IDBTR
designator U?
Low-Power, Low-Voltage, 1.1V to 3.6V I/O, 16-Bit, 26-KSPS CODEC with Smart Time Division Mulitplexed (SMARTDM), 30-Pin TSSOP, Industrial Grade; Published: 16-Dec-2005; DatasheetVersion: 30-Mar-2005; PackageVersion: Sep-2005; PackageReference: DBT30; Publisher: Altium Limited; PackageDescription: Shrink Small Outline; 30 Leads; Body Width 4.4 mm; Pitch 0.5 mm; Code_JEDEC: MO-153; ComponentLink1Description: Manufacturer Link; ComponentLink1URL: http://www.ti.com/; ComponentLink2Description: Datasheet; ComponentLink2URL: http://focus.ti.com/lit/ds/symlink/tlv320aic15.pdf
footprint DBT30 (Shrink Small Outline; 30 Leads; Body Width 4.4 mm; Pitch 0.5 mm)
pins: 1 IOVSS (power) "Digital I/O ground", 2 IOVDD (power) "Digital I/O power supply", 3 FSD (out) "Frame sync delayed output. The FSD output synchronizes a slave device to the frame sync of the master device.", 4 FS (io) "Frame sync. When FS goes low, DIN begins receiving data bits and DOUT begins transmitting data bits.", 5 DOUT (out) "Data output. DOUT transmits the ADC output bits and registers data, and is synchronized to SCLK and FS", 6 DIN (in) "Data input. DIN receives the DAC input data and register data from the external DSP and is synchronized to SCLK and FS.", 7 M/S (in) "Master/slave select input.", 8 ~{PWRDN} (in) "Power down.", 9 OUTM1 (out) "Inverting output of the DAC. OUTM1 is functionally identical with and complementary to OUTP1.", 10 OUTP1 (out) "Noninverting output of the DAC.", 11 DRVDD (power) "Analog power supply for the 16Ohm drivers OUTP2 and OUTP3", 12 DRVSS (power) "Analog ground for the 16Ohm drivers OUTP2 and OUTP3", 13 NC "No connection", 14 NC "No connection", 15 NC "No connection", 16 AVSS (power) "Analog ground", 17 AVDD (power) "Analog power supply", 18 MICIN (in) "MIC preamplifier input. It must be connected to AVSS if not used.", 19 INP2 (in) "Noninverting analog input 2. It must be connected to AVSS if not used.", 20 INM2 (in) "Inverting analog input 2. It must be connected to AVSS if not used.", 21 BIAS (out) "Bias output voltage is software selectable between 1.35 V and 2.35 V.", 22 INM1 (in) "Inverting analog input 1. It must be connected to AVSS if not used.", 23 INP1 (in) "Noninverting analog input 1. It must be connected to AVSS if not used.", 24 ~{RESET} (in) "Hardware reset.", 25 MCLK (in) "Master clock. MCLK derives the internal clocks of the sigma-delta analog interface circuit.", 26 SCL (in) "Programmable host port (I2C or S2C) clock input.", 27 SDA (io) "Programmable host port (I2C or S2C) data line.", 28 SCLK (io) "Shift clock. SCLK signal clocks serial data into DIN and out of DOUT during the frame-sync interval.", 29 DVDD (power) "Digital power supply", 30 DVSS (power) "Digital ground"

## TLV320AIC20CPFB
designator U?
Low-Power, Highly-Integrated, Programmable 16-Bit, 26-KSPS Dual-Channel CODEC, 48-Pin TQFP, Commerical Grade; Published: 16-Dec-2005; LatestRevisionDate: 13-Apr-2006; LatestRevisionNote: IPC-7351 Footprint Added.; DatasheetVersion: 13-Sep-2005; PackageVersion: Jan-1998; PackageReference: PFB48; Publisher: Altium Limited; PackageDescription: 48-Pin Thin Plastic Quad Flat Pack 0.5 mm Pitch; Code_JEDEC: MS-026; ComponentLink1Description: Manufacturer Link; ComponentLink1URL: http://www.ti.com/; ComponentLink2Description: Datasheet; ComponentLink2URL: http://focus.ti.com/lit/ds/symlink/tlv320aic20.pdf
footprint PFB48_N (Thin QFP, 48-Leads, Body 7x7mm, Pitch 0.5mm, IPC Medium Density)
footprint PFB48_L (Thin QFP, 48-Leads, Body 7x7mm, Pitch 0.5mm, IPC High Density)
footprint PFB48_M (Thin QFP, 48-Leads, Body 7x7mm, Pitch 0.5mm, IPC Low Density)
pins: 1 HDSI- (in) "Head-set input. The Head-set input can be treated similar to the Line-input pins", 2 HDSI+ (in) "Head-set input. The Head-set input can be treated similar to the Line-input pins", 3 HDSO- (out) "150W output", 4 HDSO+ (out) "150W output", 5 AVDD2 (power) "Analog power supply", 6 AVSS2 (power) "Analog ground", 7 TESTP (in) "Test pin. Should be connected to digital ground.", 8 NC "Not connected", 9 ~{PWRDN} (in) "Power down", 10 SDA (io) "I2C/S2C data", 11 SCL (in) "I2C/S2C clock", 12 IOVDD (power) "I/O power supply", 13 IOVSS (power) "I/O ground", 14 FSD (out) "Frame sync delayed", 15 DVDD (power) "Digital supply (1.8 V)", 16 DVSS (power) "Digital ground", 17 DOUT (out) "Data OUT", 18 DIN (in) "Data IN", 19 FS (io) "Frame sync", 20 SCLK (io) "Serial clock", 21 M/S (in) "Master slave select applied to CODEC1 only. CODEC2 is always a slave.", 22 MCLK (in) "Master clock", 23 ~{RESET} (in) "Reset", 24 VSS (power) "Device ground. Typically this should be connected to the Analog Ground.", 25 DRVSS1 (power) "Driver ground", 26 SPKO+ (out) "8W output", 27 DRVDD (power) "Driver supply", 28 SPKO- (out) "8W output", 29 DRVSS2 (power) "Driver ground", 30 CIDI- (in) "Caller-ID input. The Caller-ID input can be treated similar to the Line-input pins", 31 CIDI+ (in) "Caller-ID input. The Caller-ID input can be treated similar to the Line-input pins", 32 AVSS1 (power) "Analog ground", 33 AVDD1 (power) "Analog supply", 34 MICI- (in) "Microphone input", 35 MICI+ (in) "Microphone input", 36 MICBIAS (in) "Microphone bias", 37 LCDAC (out) "6-Bit DAC output may be used to drive LCDAC", 38 HNSO- (out) "150-W output", 39 HNSO+ (out) "150-W output", 40 HNSI- (in) "Hand-set input. The Hand-set input can be treated similar to the Line-input pins", 41 HNSI+ (in) "Hand-set input. The Hand-set input can be treated similar to the Line-input pins", 42 AVDD (power) "Analog supply", 43 AVSS (power) "Analog ground", 44 LINEI+ (in) "Line input", 45 LINEI- (in) "Line input", 46 LINEO- (out) "600W output", 47 LINEO+ (out) "600W output", 48 NC "Not connected"